# Altium schematic symbol library 1u_F_0603.SchLib: 1 symbol
Pins are listed as number, name and electrical type; pins without a type are passive.

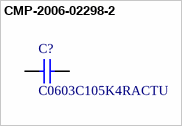
[diagram p0: symbol CMP-2006-02298-2]

## CMP-2006-02298-2
designator C?, comment C0603C105K4RACTU
Manufacturer: Kemet; Part Number: C0603C105K4RACTU
footprint CAPC1608X90X35ML15T15 (Chip Capacitor, 2-Leads, Body 1.60x0.81mm, IPC Low Density)
footprint CAPC1608X90X35LL15T15 (Chip Capacitor, 2-Leads, Body 1.60x0.81mm, IPC High Density)
footprint CAPC1608X90X35NL15T15 (Chip Capacitor, 2-Leads, Body 1.60x0.81mm, IPC Medium Density)
pins: 1, 2
1 alternate drawing of the same symbol